# EAGLE library part TPS61175 (library dc-dc)
3-A High Voltage Boost Converter with Soft-start and Programmable Switching Frequency
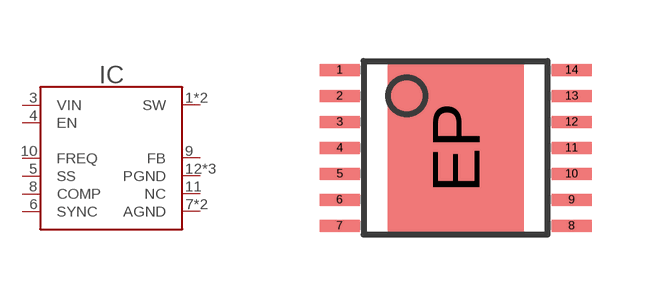
[diagram p23: symbol with the pads of TSSOP14-EP; footprint TSSOP14-EP]

Designator prefix IC

## TPS61175 (MANF: Texas Instruments; MANF#: TPS61175PWP)  [TSSOP14-EP]
1  SW
2  SW
3  VIN
4  EN
5  SS
6  SYNC
7  AGND
8  COMP
9  FB
10  FREQ
11  NC
12  PGND
13  PGND
14  PGND
EP  AGND

## Footprint TSSOP14-EP (pad centres in mm)
Thin Shrink Small Outline Plastic 16
smd 1 x 0.3: 1 -2.9,1.95; 2 -2.9,1.3; 3 -2.9,0.65; 4 -2.9,0; 5 -2.9,-0.65; 6 -2.9,-1.3; 7 -2.9,-1.95; 8 2.9,-1.95; 9 2.9,-1.3; 10 2.9,-0.65; 11 2.9,0; 12 2.9,0.65; 13 2.9,1.3; 14 2.9,1.95
smd 3.4 x 4.4: EP 0,0